# EAGLE library part INA240A1DR (library INA240A1DR)
80V, Low-/High-Side, Bi-Directional, Zero-Drift, Current Sense Amp w/Enhanced PWM Rejection Source: Datasheet <http://www.ti.com/lit/gpn/ina240>
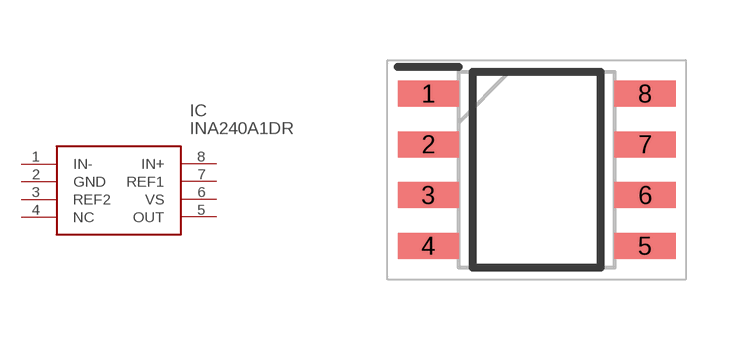
[diagram p0: symbol with the pads of SOIC127P600X175-8N; footprint SOIC127P600X175-8N]

Designator prefix IC

## INA240A1DR (Description: 80V, Low-/High-Side, Bi-Directional, Zero-Drift, Current Sense Amp w/Enhanced PWM Rejection; Height: 1.75mm; Manufacturer_Name: Texas Instruments; Manufacturer_Part_Number: INA240A1DR; Mouser_Part_Number: 595-INA240A1DR; Mouser_Price-Stock: https://www.mouser.co.uk/ProductDetail/Texas-Instruments/INA240A1DR?qs=AQlKX63v8Rv7XB07RTzuHA%3D%3D)  [SOIC127P600X175-8N]
1  IN-
2  GND
3  REF2
4  NC  nc
5  OUT
6  VS
7  REF1
8  IN+

## Footprint SOIC127P600X175-8N (pad centres in mm)
INA240A1DR+
smd 1.528 x 0.65: 1 -2.711,1.905; 2 -2.711,0.635; 3 -2.711,-0.635; 4 -2.711,-1.905; 5 2.711,-1.905; 6 2.711,-0.635; 7 2.711,0.635; 8 2.711,1.905